# EAGLE library part CHERRY-MX-DUAL-SIDE-1*2OR2*1 (library cherry-mx-dual-side)
It's a library for cherry MX which can be using as two 1x switches or one 2x switch and dual side using.
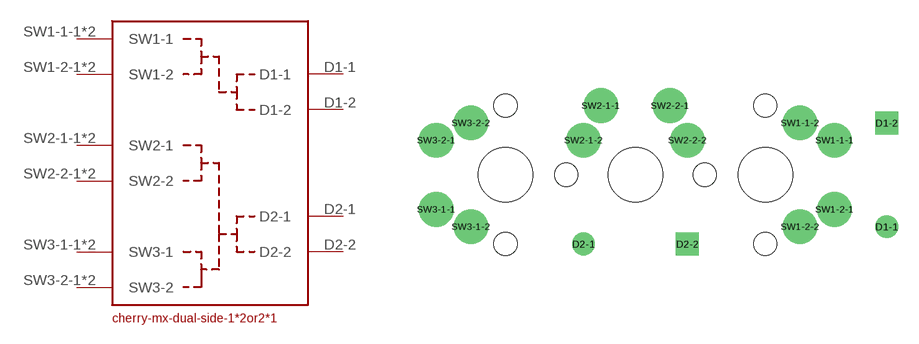
[diagram p0: symbol with the pads of CHERRY-MX-DUAL-SIDE-1*2OR2*1; footprint CHERRY-MX-DUAL-SIDE-1*2OR2*1]

Designator prefix -

## CHERRY-MX-DUAL-SIDE-12OR21  [CHERRY-MX-DUAL-SIDE-1*2OR2*1]
D1-1  D1-1
D1-2  D1-2
D2-1  D2-1
D2-2  D2-2
SW1-1-1  SW1-1
SW1-1-2  SW1-1
SW1-2-1  SW1-2
SW1-2-2  SW1-2
SW2-1-1  SW2-1
SW2-1-2  SW2-1
SW2-2-1  SW2-2
SW2-2-2  SW2-2
SW3-1-1  SW3-1
SW3-1-2  SW3-1
SW3-2-1  SW3-2
SW3-2-2  SW3-2

## Footprint CHERRY-MX-DUAL-SIDE-1*2OR2*1 (pad centres in mm)
drill 1.016 pad 1.676: D1-1 8.89,-3.81; D2-1 -13.335,-5.08
drill 1.016 pad 1.676 square: D1-2 8.89,3.81; D2-2 -5.715,-5.08
drill 1.5 pad 2.54: SW1-1-1 5.08,2.54; SW1-1-2 2.54,3.81; SW1-2-1 5.08,-2.54; SW1-2-2 2.54,-3.81; SW2-1-1 -12.065,5.08; SW2-1-2 -13.335,2.54; SW2-2-1 -6.985,5.08; SW2-2-2 -5.715,2.54; SW3-1-1 -24.13,-2.54; SW3-1-2 -21.59,-3.81; SW3-2-1 -24.13,2.54; SW3-2-2 -21.59,3.81
hole 4 at 0,0
hole 4 at -19.05,0
hole 4 at -9.525,0
hole 1.702 at -19.05,5.08
hole 1.702 at -19.05,-5.08
hole 1.702 at -14.605,0
hole 1.702 at -4.445,0
hole 1.702 at 0,-5.08
hole 1.702 at 0,5.08